# Altium schematic symbol library CI160808-2N2D.SchLib: 1 symbol
Pins are listed as number, name and electrical type; pins without a type are passive.

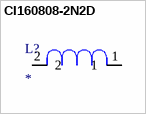
[diagram p0: symbol CI160808-2N2D]

## CI160808-2N2D
designator L?
CHIP INDUCTOR, 2.2NH, 300MA 0.3NH, 10GHZ; MP: CI160808-2N2D; MF: {'manufacturer': u'Bourns'}; Price: None; Availability: Unavailable; Package: None; Value: *
footprint INDC1608X08N
pins: 1, 2